# EAGLE library part MC56F8346 (library dsp56f8346)
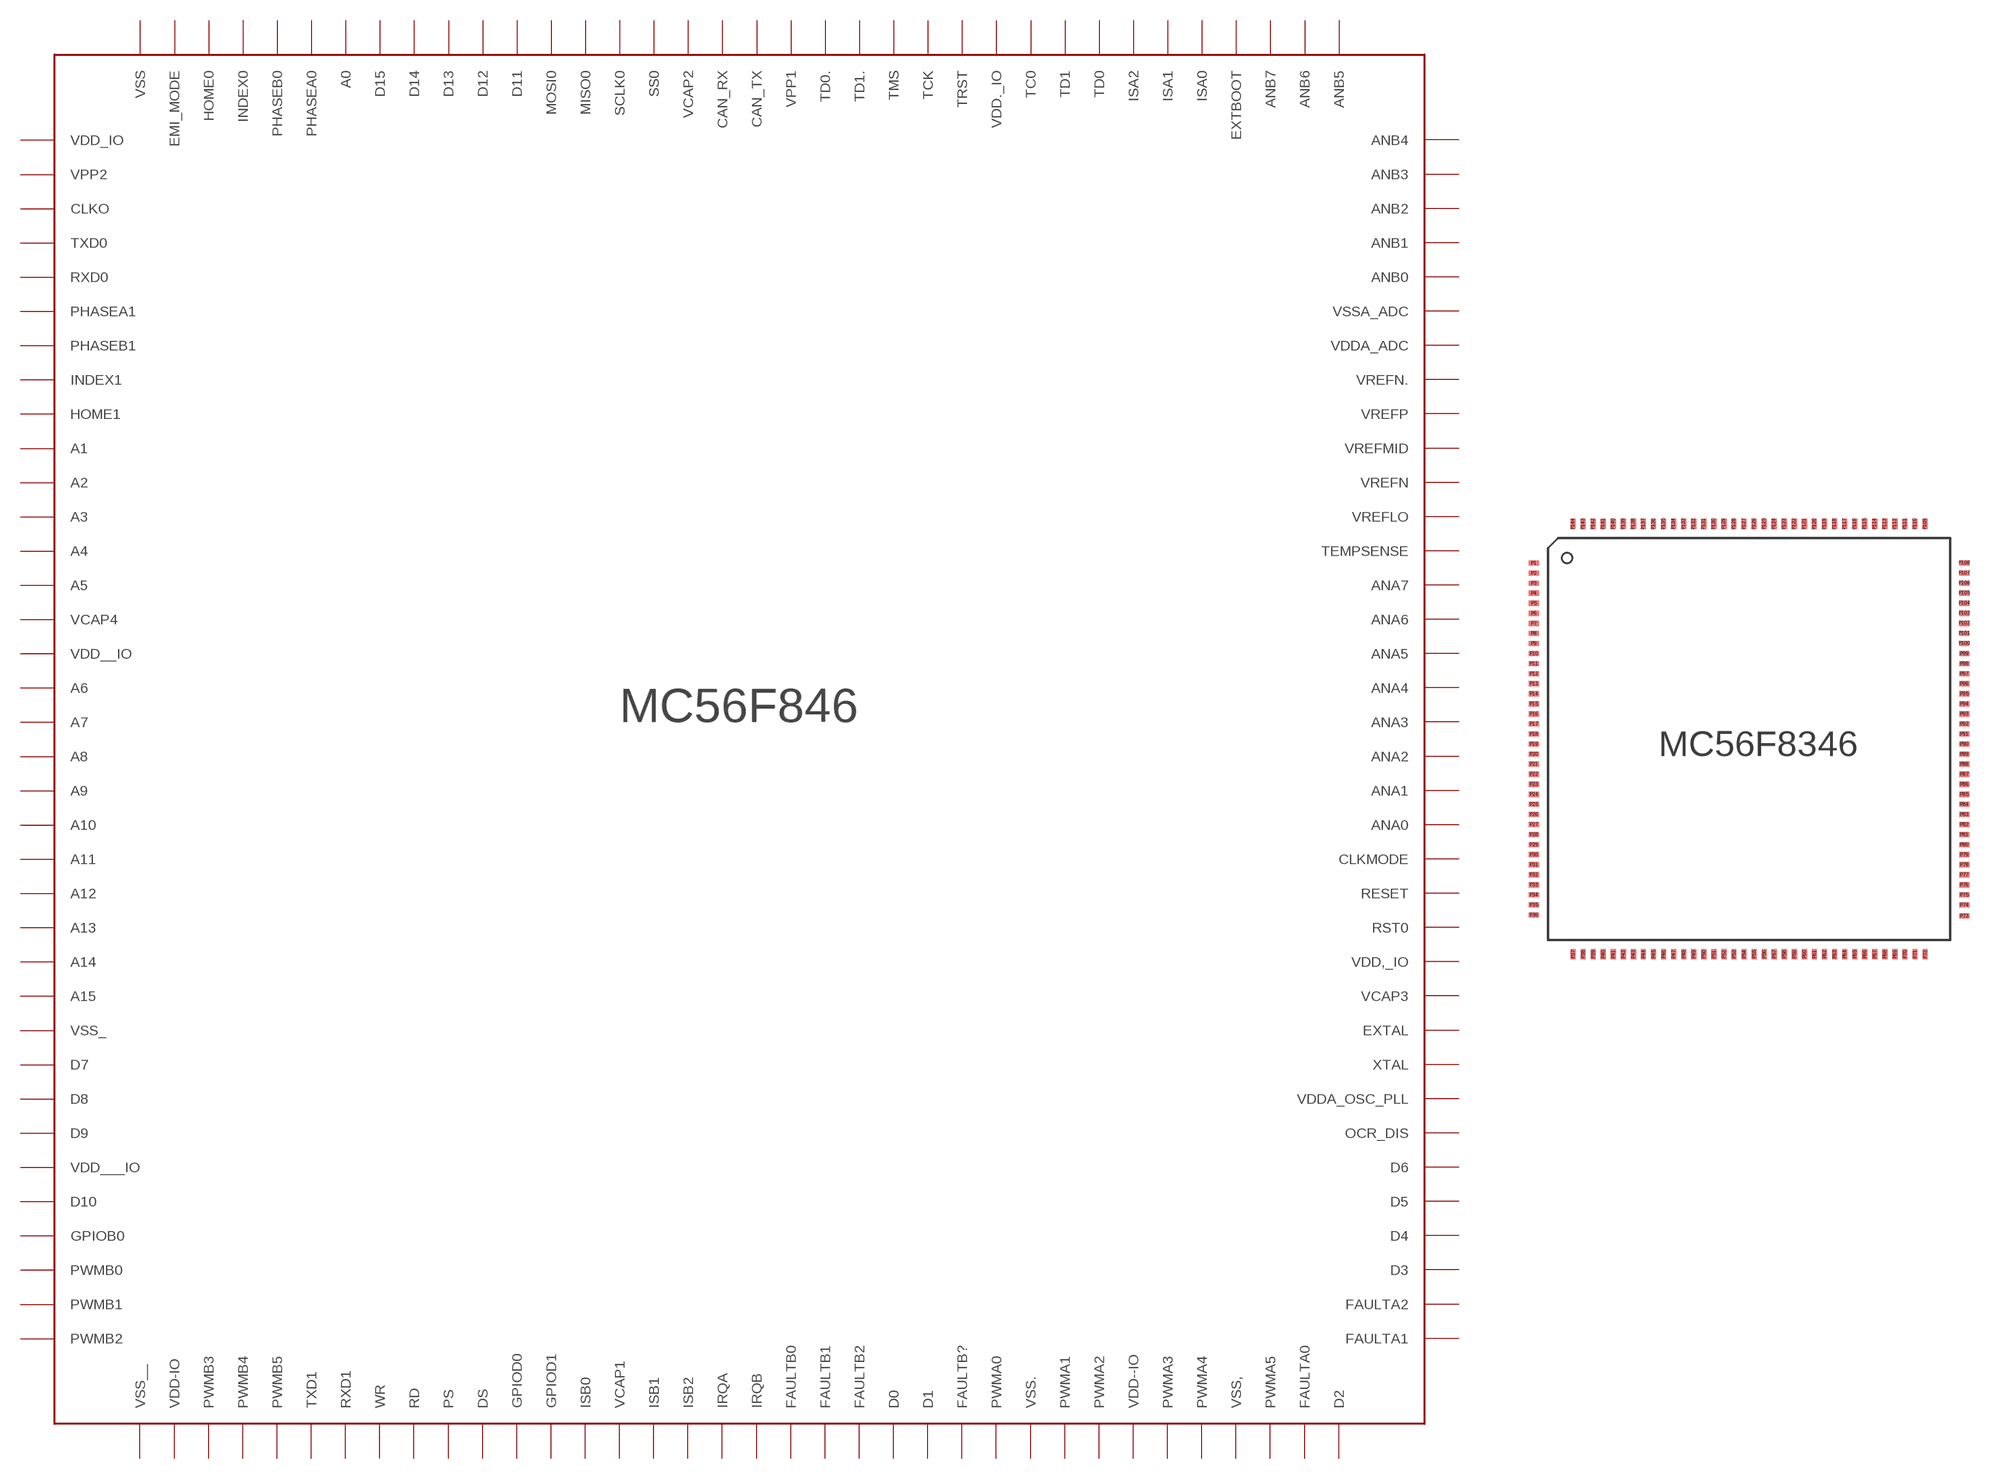
[diagram p0: symbol with the pads of MC56F8346; footprint MC56F8346]

Designator prefix -

## MC56F8346  [MC56F8346]
P1  VDD_IO
P2  VPP2
P3  CLKO
P4  TXD0
P5  RXD0
P6  PHASEA1
P7  PHASEB1
P8  INDEX1
P9  HOME1
P10  A1
P11  A2
P12  A3
P13  A4
P14  A5
P15  VCAP4
P16  VDD__IO
P17  A6
P18  A7
P19  A8
P20  A9
P21  A10
P22  A11
P23  A12
P24  A13
P25  A14
P26  A15
P27  VSS_
P28  D7
P29  D8
P30  D9
P31  VDD___IO
P32  D10
P33  GPIOB0
P34  PWMB0
P35  PWMB1
P36  PWMB2
P37  VSS__
P38  VDD-IO
P39  PWMB3
P40  PWMB4
P41  PWMB5
P42  TXD1
P43  RXD1
P44  WR
P45  RD
P46  PS
P47  DS
P48  GPIOD0
P49  GPIOD1
P50  ISB0
P51  VCAP1
P52  ISB1
P53  ISB2
P54  IRQA
P55  IRQB
P56  FAULTB0
P57  FAULTB1
P58  FAULTB2
P59  D0
P60  D1
P61  FAULTB?
P62  PWMA0
P63  VSS.
P64  PWMA1
P65  PWMA2
P66  VDD--IO
P67  PWMA3
P68  PWMA4
P69  VSS,
P70  PWMA5
P71  FAULTA0
P72  D2
P73  FAULTA1
P74  FAULTA2
P75  D3
P76  D4
P77  D5
P78  D6
P79  OCR_DIS
P80  VDDA_OSC_PLL
P81  XTAL
P82  EXTAL
P83  VCAP3
P84  VDD,_IO
P85  RST0
P86  RESET
P87  CLKMODE
P88  ANA0
P89  ANA1
P90  ANA2
P91  ANA3
P92  ANA4
P93  ANA5
P94  ANA6
P95  ANA7
P96  TEMPSENSE
P97  VREFLO
P98  VREFN
P99  VREFMID
P100  VREFP
P101  VREFN.
P102  VDDA_ADC
P103  VSSA_ADC
P104  ANB0
P105  ANB1
P106  ANB2
P107  ANB3
P108  ANB4
P109  ANB5
P110  ANB6
P111  ANB7
P112  EXTBOOT
P113  ISA0
P114  ISA1
P115  ISA2
P116  TD0
P117  TD1
P118  TC0
P119  VDD._IO
P120  TRST
P121  TCK
P122  TMS
P123  TD1.
P124  TD0.
P125  VPP1
P126  CAN_TX
P127  CAN_RX
P128  VCAP2
P129  SS0
P130  SCLK0
P131  MISO0
P132  MOSI0
P133  D11
P134  D12
P135  D13
P136  D14
P137  D15
P138  A0
P139  PHASEA0
P140  PHASEB0
P141  INDEX0
P142  HOME0
P143  EMI_MODE
P144  VSS

## Footprint MC56F8346 (pad centres in mm)
smd 0.5 x 0.25: P1 -9.59,8.59; P2 -9.59,8.09; P3 -9.59,7.59; P4 -9.59,7.09; P5 -9.59,6.59; P6 -9.59,6.09; P7 -9.59,5.59; P8 -9.59,5.09; P9 -9.59,4.59; P10 -9.59,4.09; P11 -9.59,3.59; P12 -9.59,3.09; P13 -9.59,2.59; P14 -9.59,2.09; P15 -9.59,1.59; P16 -9.59,1.09; P17 -9.59,0.59; P18 -9.59,0.09; P19 -9.59,-0.41; P20 -9.59,-0.91; P21 -9.59,-1.41; P22 -9.59,-1.91; P23 -9.59,-2.41; P24 -9.59,-2.91; P25 -9.59,-3.41; P26 -9.59,-3.91; P27 -9.59,-4.41; P28 -9.59,-4.91; P29 -9.59,-5.41; P30 -9.59,-5.91; P31 -9.59,-6.41; P32 -9.59,-6.91; P33 -9.59,-7.41; P34 -9.59,-7.91; P35 -9.59,-8.41; P36 -9.59,-8.91; P73 11.81,-8.96; P74 11.81,-8.41; P75 11.81,-7.91; P76 11.81,-7.41; P77 11.81,-6.91; P78 11.81,-6.41; P79 11.81,-5.91; P80 11.81,-5.41; P81 11.81,-4.91; P82 11.81,-4.41; P83 11.81,-3.91; P84 11.81,-3.41; P85 11.81,-2.91; P86 11.81,-2.41; P87 11.81,-1.91; P88 11.81,-1.41; P89 11.81,-0.91; P90 11.81,-0.41; P91 11.81,0.09; P92 11.81,0.59; P93 11.81,1.09; P94 11.81,1.59; P95 11.81,2.09; P96 11.81,2.59; P97 11.81,3.09; P98 11.81,3.59; P99 11.81,4.09; P100 11.81,4.59; P101 11.81,5.09; P102 11.81,5.59; P103 11.81,6.09; P104 11.81,6.59; P105 11.81,7.09; P106 11.81,7.59; P107 11.81,8.09; P108 11.81,8.59
smd 0.25 x 0.5: P37 -7.64,-10.86; P38 -7.14,-10.86; P39 -6.64,-10.86; P40 -6.14,-10.86; P41 -5.64,-10.86; P42 -5.14,-10.86; P43 -4.64,-10.86; P44 -4.14,-10.86; P45 -3.64,-10.86; P46 -3.14,-10.86; P47 -2.64,-10.86; P48 -2.14,-10.86; P49 -1.64,-10.86; P50 -1.14,-10.86; P51 -0.64,-10.86; P52 -0.14,-10.86; P53 0.36,-10.86; P54 0.86,-10.86; P55 1.36,-10.86; P56 1.86,-10.86; P57 2.36,-10.86; P58 2.86,-10.86; P59 3.36,-10.86; P60 3.86,-10.86; P61 4.36,-10.86; P62 4.86,-10.86; P63 5.36,-10.86; P64 5.86,-10.86; P65 6.36,-10.86; P66 6.86,-10.86; P67 7.36,-10.86; P68 7.86,-10.86; P69 8.36,-10.86; P70 8.86,-10.86; P71 9.36,-10.86; P72 9.86,-10.86; P109 9.86,10.54; P110 9.36,10.54; P111 8.86,10.54; P112 8.36,10.54; P113 7.86,10.54; P114 7.36,10.54; P115 6.86,10.54; P116 6.36,10.54; P117 5.86,10.54; P118 5.36,10.54; P119 4.86,10.54; P120 4.36,10.54; P121 3.86,10.54; P122 3.36,10.54; P123 2.86,10.54; P124 2.36,10.54; P125 1.86,10.54; P126 1.36,10.54; P127 0.86,10.54; P128 0.36,10.54; P129 -0.14,10.54; P130 -0.64,10.54; P131 -1.14,10.54; P132 -1.64,10.54; P133 -2.14,10.54; P134 -2.64,10.54; P135 -3.14,10.54; P136 -3.64,10.54; P137 -4.14,10.54; P138 -4.64,10.54; P139 -5.14,10.54; P140 -5.64,10.54; P141 -6.14,10.54; P142 -6.64,10.54; P143 -7.14,10.54; P144 -7.64,10.54